# Altium footprint library 6502_CPU_MainBoard_PCB_V1_2.PcbLib: 25 footprints (part 1 of 2)
Each footprint in its own frame and in the unit in brackets; x right, y up, seen from the top. Pads: shape width x height; smd on the part's side, far side on the other; paste and mask are expansions set on the pad; w line width, h text height; cw(c..) or ccw(c..) is an arc to the next point about the centre after c.
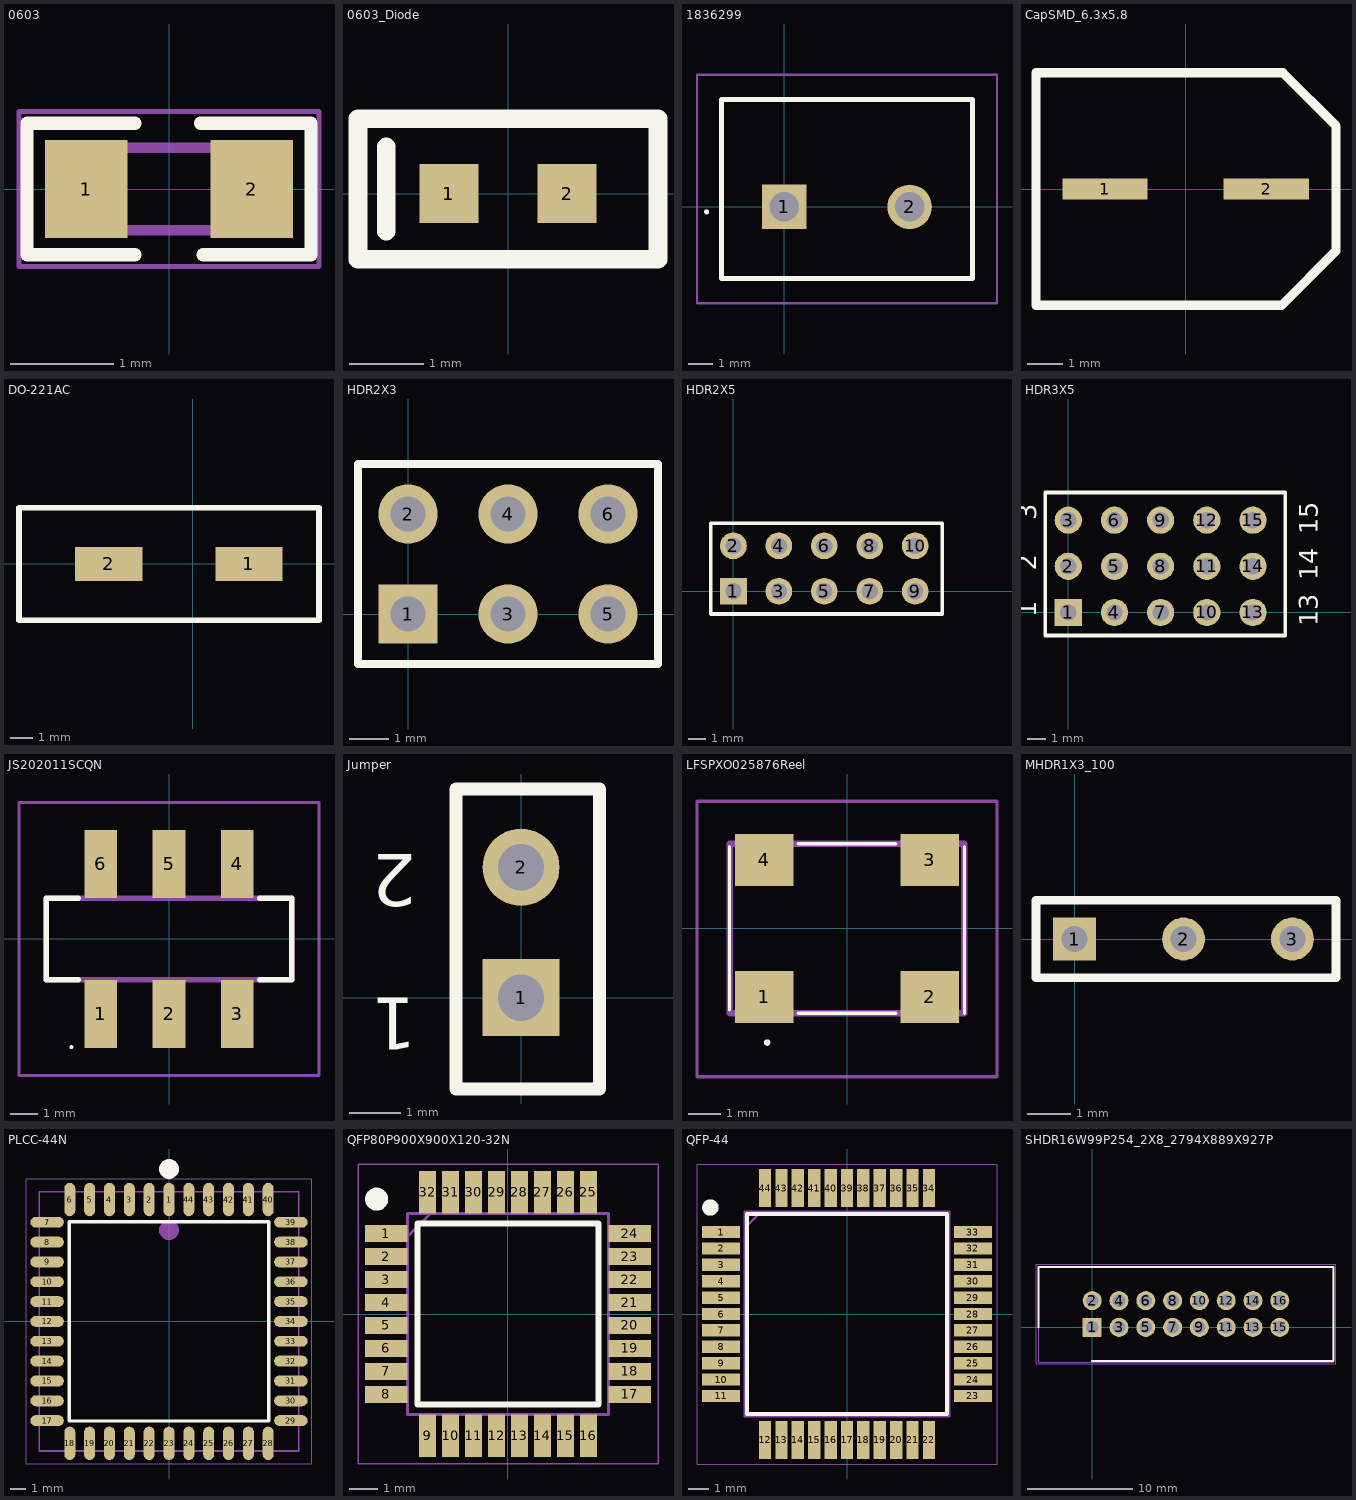
[diagram p0: the footprints below, top view; thin cyan lines are the x and y axes]

## 0603 [mm]
height 1.524
pads (2):
  rect 0.8x0.95 smd: 1(-0.8,0) 2(0.8,0)
Top Overlay:
  lines w0.127: -0.33,-0.635 -1.372,-0.635 -1.372,0.635 -0.33,0.635 ; 0.305,0.635 1.372,0.635 1.372,-0.635 0.33,-0.635
Mechanical 15:
  lines w0.1: -0.8,-0.4 -0.8,0.4 0.8,0.4 0.8,-0.4 -0.8,-0.4
Mechanical 20:
  lines w0.05: -1.45,-0.75 -1.45,0.75 1.45,0.75 1.45,-0.75 -1.45,-0.75
3D body "RC0603JR-070RL.stp": height 0.55, standoff 0, extent -0.8,-0.4 0.8,0.4

## 0603_Diode [mm]
height 1.524
pads (2):
  rect 0.8x0.8 smd: 1(-0.8,0) 2(0.8,0)
Top Overlay:
  lines w0.254: -1.651,-0.508 -1.651,0.635 ; -2.032,-0.889 2.032,-0.889 2.032,1.016 -2.032,1.016 -2.032,-0.889

## 1836299 [mm]
height 1.524
pads (2):
  rect 1.8x1.8 hole 1.2: 1(0,0)
  round 1.8 hole 1.2: 2(5.08,0)
Top Overlay:
  lines w0.1: -3.2,-0.2 cw(c-3.15,-0.2) -3.1,-0.2 cw(c-3.15,-0.2) -3.2,-0.2
  lines w0.2: -2.54,-2.9 -2.54,4.35 7.62,4.35 7.62,-2.9 -2.54,-2.9
Mechanical 15:
  lines w0.1: -2.54,-2.9 -2.54,4.35 7.62,4.35 7.62,-2.9 -2.54,-2.9
Mechanical 20:
  lines w0.1: -3.54,-3.9 -3.54,5.35 8.62,5.35 8.62,-3.9 -3.54,-3.9
3D body "1836299.stp": height 9.2, standoff -3.4, extent -2.413,-2.921 7.747,4.329

## CapSMD_6.3x5.8 [mm]
height 1.524
pads (2):
  rect 2.4x0.6 smd: 1(-2.273,0) 2(2.273,0)
Top Overlay:
  lines w0.254: -4.216,1.623 -4.216,-3.277 2.707,-3.277 4.239,-1.744 4.239,1.781 2.743,3.277 -4.216,3.277 -4.216,2.489 -4.216,1.626

## DO-221AC [mil]
height 60
pads (2):
  rect 120x60 smd: 1(100,0) 2(-150,0)
Top Overlay:
  lines w10: -310,-100 225,-100 225,100 -310,100 -310,70 -310,-100
3D body "TPSMA6L24A.stp": height 43.31, standoff 0, extent -132.36,-51.18 72.36,51.18

## HDR2X3 [mm] "Connector; Header; 3x2 Position"
height 1.524
pads (6):
  rect 1.5x1.5 hole 0.9: 1(0,0)
  round 1.5 hole 0.9: 2(0,2.54) 3(2.54,0) 4(2.54,2.54) 5(5.08,0) 6(5.08,2.54)
Top Overlay:
  lines w0.2: 1.482,-1.27 6.35,-1.27 ; 6.35,-1.27 -1.27,-1.27 -1.27,3.81 6.35,3.81 6.35,-1.27

## HDR2X5 [mm] "Connector; Header; 5x2 Position"
height 1.524
pads (10):
  rect 1.5x1.5 hole 0.9: 1(0,0)
  round 1.5 hole 0.9: 2(0,2.54) 3(2.54,0) 4(2.54,2.54) 5(5.08,0) 6(5.08,2.54) 7(7.62,0) 8(7.62,2.54) 9(10.16,0) 10(10.16,2.54)
Top Overlay:
  lines w0.2: -1.27,-1.27 -1.27,3.81 11.684,3.81 11.684,-1.27 -1.27,-1.27

## HDR3X5 [mm] "Connector; Header; 8x2 Position"
height 1.524
pads (15):
  rect 1.5x1.5 hole 0.9: 1(0,0)
  round 1.5 hole 0.9: 2(0,2.54) 3(0,5.08) 4(2.54,0) 5(2.54,2.54) 6(2.54,5.08) 7(5.08,0) 8(5.08,2.54) 9(5.08,5.08) 10(7.62,0) 11(7.62,2.54) 12(7.62,5.08) 13(10.16,0) 14(10.16,2.54) 15(10.16,5.08)
Top Overlay:
  lines w0.2: -1.27,-1.27 -1.27,6.604 11.938,6.604 11.938,-1.27 -1.27,-1.27
  text "2" at -1.778,2.286 h1.02
  text "1" at -1.778,-0.254 h1.02
  text "13" at 13.716,-0.762 h1.02
  text "14" at 13.716,1.778 h1.02
  text "3" at -1.778,5.08 h1.02
  text "15" at 13.716,4.318 h1.02

## JS202011SCQN [mm]
height 1.524
pads (6):
  rect 1.2x2.5 smd: 1(-2.5,-2.75) 2(0,-2.75) 3(2.5,-2.75) 4(2.5,2.75) 5(0,2.75) 6(-2.5,2.75)
Top Overlay:
  lines w0.072: -3.614,-3.968 ccw(c-3.578,-3.968) -3.542,-3.968 ccw(c-3.578,-3.968) -3.614,-3.968
  lines w0.2: -3.323,-1.5 -4.5,-1.5 -4.5,1.5 -3.323,1.5 ; 3.323,-1.5 4.5,-1.5 4.5,1.5 3.323,1.5
Mechanical 15:
  lines w0.2: -4.5,-1.5 4.5,-1.5 4.5,1.5 -4.5,1.5 -4.5,-1.5
Mechanical 20:
  lines w0.1: -5.5,-5.004 5.5,-5.004 5.5,5 -5.5,5 -5.5,-5.004
3D body "JS202011SCQN.stp": height 5.65, standoff -0.2, extent -4.5,-3.5 4.5,3.5

## Jumper [mm] "Connector; Header; 8x2 Position"
height 1.524
pads (2):
  rect 1.5x1.5 hole 0.9: 1(0,0)
  round 1.5 hole 0.9: 2(0,2.54)
Top Overlay:
  lines w0.254: -1.27,-1.778 -1.27,4.064 1.524,4.064 1.524,-1.778 -1.27,-1.778
  text "1" at -2.032,0 h1.02
  text "2" at -2.032,2.794 h1.02

## LFSPXO025876Reel [mm]
height 1.524
pads (4):
  rect 1.8x1.6 smd: 1(-2.54,-2.1) 2(2.54,-2.1) 3(2.54,2.1) 4(-2.54,2.1)
Top Overlay:
  lines w0.1: -3.6,-2.5 -3.6,2.5 ; -1.5,-2.6 1.5,-2.6 ; -1.5,2.6 1.5,2.6 ; 3.6,-2.6 3.6,2.5 ; -2.5,-3.5 cw(c-2.45,-3.5) -2.4,-3.5 cw(c-2.45,-3.5) -2.5,-3.5
Mechanical 15:
  lines w0.2: -3.6,-2.6 -3.6,2.6 3.6,2.6 3.6,-2.6 -3.6,-2.6
Mechanical 20:
  lines w0.1: -4.6,-4.55 -4.6,3.9 4.6,3.9 4.6,-4.55 -4.6,-4.55
3D body "LFSPXO025876Reel.stp": height 1.5, standoff 0, extent -3.6,-2.74 3.6,2.74

## MHDR1X3_100 [mm] "Connector; Header; 3 Position"
height 1.524
pads (3):
  rect 1x1 hole 0.6: 1(0,0)
  round 1 hole 0.6: 2(2.54,0) 3(5.08,0)
Top Overlay:
  lines w0.2: -0.9,-0.9 6.096,-0.9 6.096,0.9 -0.9,0.9 -0.9,-0.9

## PLCC-44N [mm]
height 1.524
pads (44):
  oval 0.7x2.144 smd: 1(0,7.803) 2(-1.27,7.803) 3(-2.54,7.803) 4(-3.81,7.803) 5(-5.08,7.803) 6(-6.35,7.803) 18(-6.35,-7.803) 19(-5.08,-7.803) 20(-3.81,-7.803) 21(-2.54,-7.803) 22(-1.27,-7.803) 23(0,-7.803) 24(1.27,-7.803) 25(2.54,-7.803) 26(3.81,-7.803) 27(5.08,-7.803) 28(6.35,-7.803) 40(6.35,7.803) 41(5.08,7.803) 42(3.81,7.803) 43(2.54,7.803) 44(1.27,7.803)
  oval 2.144x0.7 smd: 7(-7.803,6.35) 8(-7.803,5.08) 9(-7.803,3.81) 10(-7.803,2.54) 11(-7.803,1.27) 12(-7.803,0) 13(-7.803,-1.27) 14(-7.803,-2.54) 15(-7.803,-3.81) 16(-7.803,-5.08) 17(-7.803,-6.35) 29(7.803,-6.35) 30(7.803,-5.08) 31(7.803,-3.81) 32(7.803,-2.54) 33(7.803,-1.27) 34(7.803,0) 35(7.803,1.27) 36(7.803,2.54) 37(7.803,3.81) 38(7.803,5.08) 39(7.803,6.35)
Top Overlay:
  circle w0.635: c0,9.76 r0.318
  lines w0.2: -6.381,-6.381 -6.381,6.381 6.381,6.381 6.381,-6.381 -6.381,-6.381
Mechanical 15:
  circle w0.635: c0,5.847 r0.318
  lines w0.1: -8.293,-8.293 -8.293,8.293 8.293,8.293 8.293,-8.293 -8.293,-8.293
Mechanical 20:
  lines w0.05: -9.125,-9.125 -9.125,9.125 9.125,9.125 9.125,-9.125 -9.125,-9.125

## QFP80P900X900X120-32N [mm]
height 1.524
pads (32):
  rect 1.475x0.6 smd: 1(-4.238,2.8) 2(-4.238,2) 3(-4.238,1.2) 4(-4.238,0.4) 5(-4.238,-0.4) 6(-4.238,-1.2) 7(-4.238,-2) 8(-4.238,-2.8) 17(4.238,-2.8) 18(4.238,-2) 19(4.238,-1.2) 20(4.238,-0.4) 21(4.238,0.4) 22(4.238,1.2) 23(4.238,2) 24(4.238,2.8)
  rect 0.6x1.475 smd: 9(-2.8,-4.238) 10(-2,-4.238) 11(-1.2,-4.238) 12(-0.4,-4.238) 13(0.4,-4.238) 14(1.2,-4.238) 15(2,-4.238) 16(2.8,-4.238) 25(2.8,4.238) 26(2,4.238) 27(1.2,4.238) 28(0.4,4.238) 29(-0.4,4.238) 30(-1.2,4.238) 31(-2,4.238) 32(-2.8,4.238)
Top Overlay:
  circle w0.4: c-4.575,4 r0.2
  lines w0.2: -3.15,-3.15 -3.15,3.15 3.15,3.15 3.15,-3.15 -3.15,-3.15
Mechanical 13:
  lines w0.1: -3.5,2.7 -2.7,3.5 ; -3.5,-3.5 -3.5,3.5 3.5,3.5 3.5,-3.5 -3.5,-3.5
Mechanical 15:
  lines w0.05: -5.225,-5.225 -5.225,5.225 5.225,5.225 5.225,-5.225 -5.225,-5.225
3D body "AVR64DD32-I_PT___MULTI-VOLTAGE_I_O.stp": height 1.2, standoff 0, extent -4.5,-4.5 4.5,4.5
3D body "AVR64DD32-I_PT___MULTI-VOLTAGE_I_O.stp": height 1.2, standoff 0, extent -4.5,-4.5 4.5,4.5

## QFP-44 [mm]
height 1.524
pads (44):
  rect 1.85x0.6 smd: 1(-6.15,4) 2(-6.15,3.2) 3(-6.15,2.4) 4(-6.15,1.6) 5(-6.15,0.8) 6(-6.15,0) 7(-6.15,-0.8) 8(-6.15,-1.6) 9(-6.15,-2.4) 10(-6.15,-3.2) 11(-6.15,-4) 23(6.15,-4) 24(6.15,-3.2) 25(6.15,-2.4) 26(6.15,-1.6) 27(6.15,-0.8) 28(6.15,0) 29(6.15,0.8) 30(6.15,1.6) 31(6.15,2.4) 32(6.15,3.2) 33(6.15,4)
  rect 0.6x1.85 smd: 12(-4,-6.15) 13(-3.2,-6.15) 14(-2.4,-6.15) 15(-1.6,-6.15) 16(-0.8,-6.15) 17(0,-6.15) 18(0.8,-6.15) 19(1.6,-6.15) 20(2.4,-6.15) 21(3.2,-6.15) 22(4,-6.15) 34(4,6.15) 35(3.2,6.15) 36(2.4,6.15) 37(1.6,6.15) 38(0.8,6.15) 39(0,6.15) 40(-0.8,6.15) 41(-1.6,6.15) 42(-2.4,6.15) 43(-3.2,6.15) 44(-4,6.15)
Top Overlay:
  circle w0.4: c-6.675,5.2 r0.2
  lines w0.2: -4.875,-4.875 -4.875,4.875 4.875,4.875 4.875,-4.875 -4.875,-4.875
Mechanical 15:
  lines w0.1: -5,4.2 -4.2,5 ; -5,-5 -5,5 5,5 5,-5 -5,-5
Mechanical 20:
  lines w0.05: -7.325,-7.325 -7.325,7.325 7.325,7.325 7.325,-7.325 -7.325,-7.325
3D body "W65C02S6TQG-14.stp": height 2.7, standoff 0, extent -6.6,-6.6 6.6,6.6

## SHDR16W99P254_2X8_2794X889X927P [mm]
pads (16):
  rect 1.8x1.8 / inner round 1.8 / far side rect 1.8x1.8 hole 1.2: 1(0,0)
  round 1.8 hole 1.2: 2(0,2.54) 3(2.54,0) 4(2.54,2.54) 5(5.08,0) 6(5.08,2.54) 7(7.62,0) 8(7.62,2.54) 9(10.16,0) 10(10.16,2.54) 11(12.7,0) 12(12.7,2.54) 13(15.24,0) 14(15.24,2.54) 15(17.78,0) 16(17.78,2.54)
Top Overlay:
  lines w0.2: -5.08,0 -5.08,5.715 22.86,5.715 22.86,-3.175 0,-3.175
Mechanical 15:
  lines w0.1: -5.08,-3.302 22.86,-3.302 22.86,5.715 -5.08,5.715 -5.08,-3.302
Mechanical 20:
  lines w0.05: -5.33,-3.425 23.11,-3.425 23.11,5.965 -5.33,5.965 -5.33,-3.425
3D body "70246-1604.stp": height 8.38, standoff -4.32, extent -5.08,-3.175 22.86,5.715